# EAGLE library part LCD_TEXT (library PrjBlinkenlights)
Vatronix Text LCD display reflective, with background light
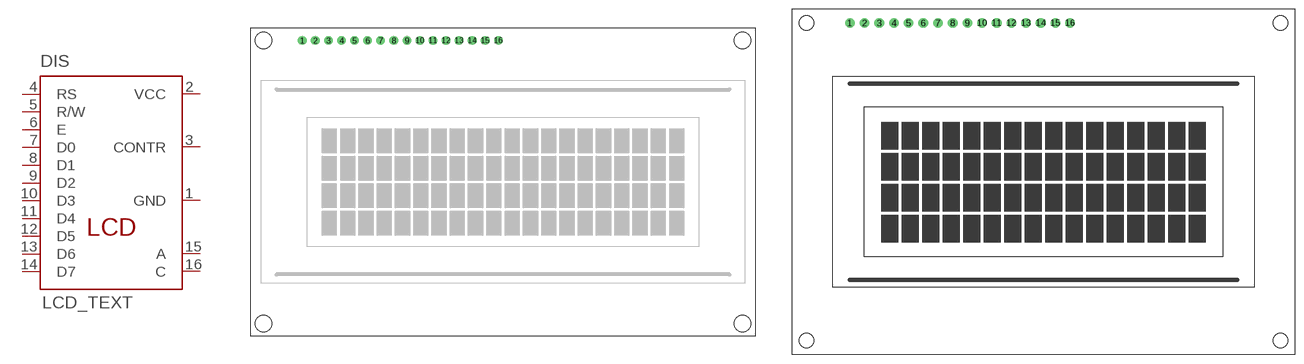
[diagram p2: symbol with the pads of TC2004A; footprints TC2004A, TC1604A]

Designator prefix DIS

## LCD_TEXTTC2004A (OC_FARNELL: unknown; OC_NEWARK: unknown)  [TC2004A]
1  GND  pwr
2  VCC  pwr
3  CONTR  in
4  RS  in
5  R/W  in
6  E  in
7  D0
8  D1
9  D2
10  D3
11  D4
12  D5
13  D6
14  D7
15  A  pas
16  C  pas

## LCD_TEXTTC1604A  [TC1604A]
Pads as for TC2004A

## Footprint TC2004A (pad centres in mm)
Vatronix TC2004A 20x4 LCD reflective, with background light Source: TC2004A.pdf
drill 1 pad 1.676 round: 1 10,-2.5; 2 12.54,-2.5; 3 15.08,-2.5; 4 17.62,-2.5; 5 20.16,-2.5; 6 22.7,-2.5; 7 25.24,-2.5; 8 27.78,-2.5; 9 30.32,-2.5; 10 32.86,-2.5; 11 35.4,-2.5; 12 37.94,-2.5; 13 40.48,-2.5; 14 43.02,-2.5; 15 45.56,-2.5; 16 48.1,-2.5
hole 3.2 at 2.5,-57.5
hole 3.2 at 95.5,-57.5
hole 3.2 at 2.5,-2.5
hole 3.2 at 95.5,-2.5

## Footprint TC1604A (pad centres in mm)
Vatronix TC1604A 16x4 LCD reflective, with background light Source: TC1604A.pdf
drill 1 pad 1.676 round: 1 10,-2.5; 2 12.54,-2.5; 3 15.08,-2.5; 4 17.62,-2.5; 5 20.16,-2.5; 6 22.7,-2.5; 7 25.24,-2.5; 8 27.78,-2.5; 9 30.32,-2.5; 10 32.86,-2.5; 11 35.4,-2.5; 12 37.94,-2.5; 13 40.48,-2.5; 14 43.02,-2.5; 15 45.56,-2.5; 16 48.1,-2.5
hole 2.5 at 2.5,-57.5
hole 2.5 at 84.5,-57.5
hole 2.5 at 2.5,-2.5
hole 2.5 at 84.5,-2.5